# Altium schematic symbol library Ethernet - Texas, DP83848xVV.SchLib: 1 symbol
Pins are listed as number, name and electrical type; pins without a type are passive.

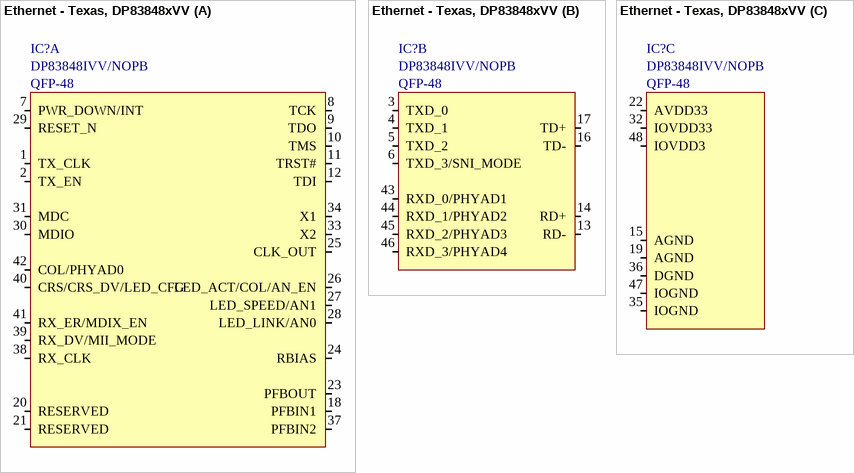
[diagram p0: symbol Ethernet - Texas, DP83848xVV]

## Ethernet - Texas, DP83848xVV
designator IC?  Manufacturer Part Number: DP83848IVV/NOPB  Package: QFP-48  (hidden comment: *)
IC, Interface, Eth Phy, 10/100Mb, DP83848IVV; Manufacturer: Texas; ComponentLink1Description: Datasheet; ComponentLink1URL: E:\Altium\Datasheets\IC - Interface\Ethernet - Texas, DP83848.pdf; ComponentLink2Description: Supplier Link; ComponentLink2URL: https://www.digikey.com/en/products/detail/texas-instruments/DP83848IVV-NOPB/947543; Supplier: Digikey; Supplier Part Number: DP83848IVV/NOPB-ND; Operating Temperature, Min: -40℃; Operating Temperature, Max: +85℃; Quantity, Min: 1; Quantity, Max: 1000; Price, Min: 6.45; Supplier Currency: $; Price, Max: 3.834; Supplier Link: https://www.digikey.com/en/products/detail/texas-instruments/DP83848IVV-NOPB/947543; Component Type: Interface; Component Category: IC
footprint QFP-48, 7mm x 7mm, 0.5mm
part A pins: 1 TX_CLK, 2 TX_EN, 7 PWR_DOWN/INT, 8 TCK, 9 TDO, 10 TMS, 11 TRST#, 12 TDI, 18 PFBIN1, 20 RESERVED, 21 RESERVED, 23 PFBOUT, 24 RBIAS, 25 CLK_OUT, 26 LED_ACT/COL/AN_EN, 27 LED_SPEED/AN1, 28 LED_LINK/AN0, 29 RESET_N, 30 MDIO, 31 MDC, 33 X2, 34 X1, 37 PFBIN2, 38 RX_CLK, 39 RX_DV/MII_MODE, 40 CRS/CRS_DV/LED_CFG, 41 RX_ER/MDIX_EN, 42 COL/PHYAD0
part B pins: 3 TXD_0, 4 TXD_1, 5 TXD_2, 6 TXD_3/SNI_MODE, 13 RD-, 14 RD+, 16 TD-, 17 TD+, 43 RXD_0/PHYAD1, 44 RXD_1/PHYAD2, 45 RXD_2/PHYAD3, 46 RXD_3/PHYAD4
part C pins: 15 AGND, 19 AGND, 22 AVDD33, 32 IOVDD33, 35 IOGND, 36 DGND, 47 IOGND, 48 IOVDD3